# Altium footprint library main.PcbLib: 9 footprints
Each footprint in its own frame and in the unit in brackets; x right, y up, seen from the top. Pads: shape width x height; smd on the part's side, far side on the other; paste and mask are expansions set on the pad; w line width, h text height; cw(c..) or ccw(c..) is an arc to the next point about the centre after c.
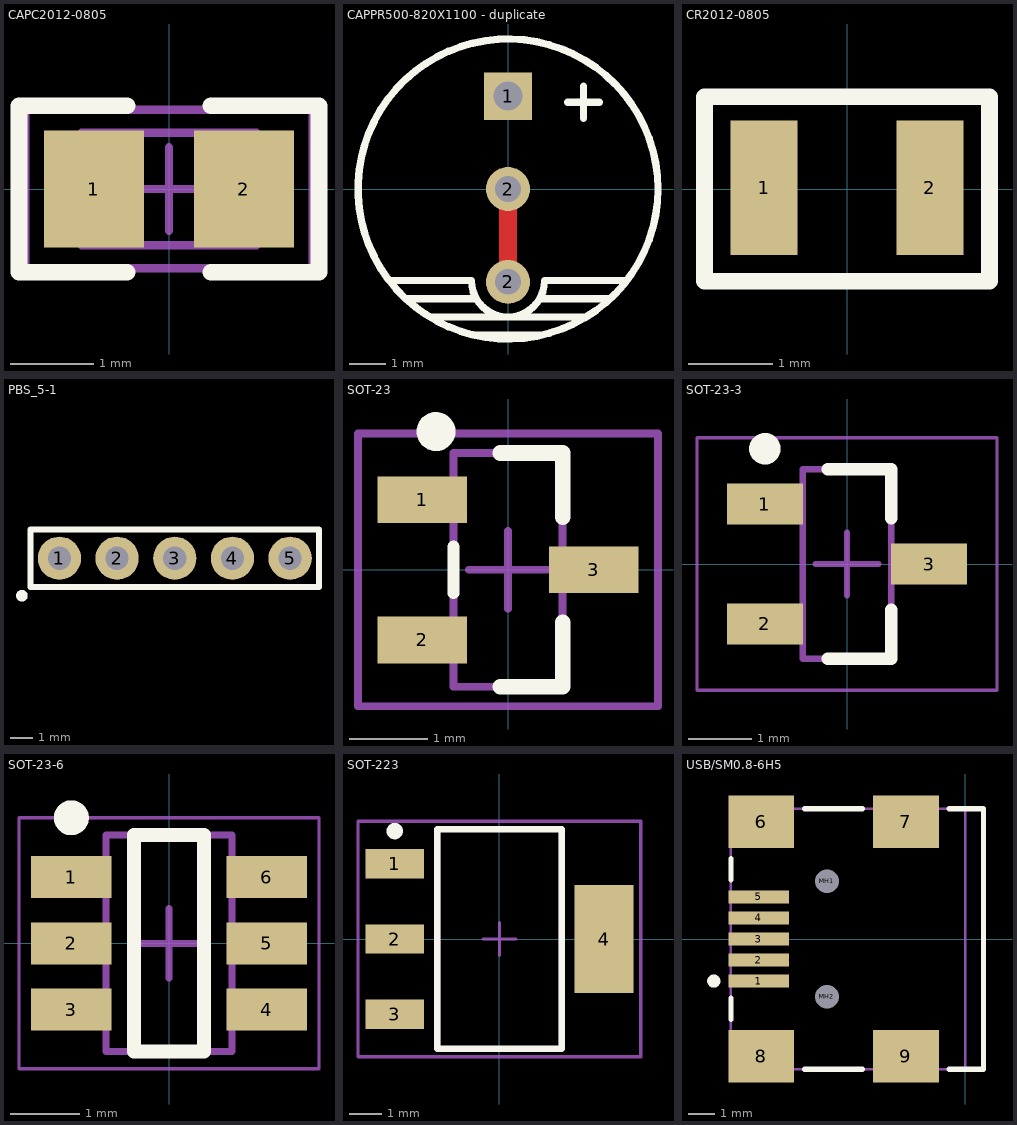
[diagram p0: the footprints below, top view; thin cyan lines are the x and y axes]

## CAPC2012-0805 [mm] "Chip Capacitor, 2-Leads, Body 2.0x1.3mm, IPC Medium Density"
height 0.6
pads (2):
  rect 1.2x1.4 smd: 1(-0.9,0) 2(0.9,0)
Top Overlay:
  lines w0.2: -0.5,-1 -1.8,-1 -1.8,1 -0.5,1 ; 0.5,-1 1.8,-1 1.8,1 0.5,1
Mechanical 13:
  lines w0.1: -1.05,-0.675 -1.05,0.675 1.05,0.675 1.05,-0.675 -1.05,-0.675
Mechanical 15:
  lines w0.1: -0.5,0 0.5,0 ; 0,-0.5 0,0.5 ; -1.725,-0.95 -1.725,0.95 1.725,0.95 1.725,-0.95 -1.725,-0.95
3D body "User Library-SMD CAPACITOR 0805.step": height 0.6, standoff 0, extent -1,-0.625 1,0.625

## CAPPR500-820X1100 - duplicate [mm] "Шаг 5 мм. Диаметр - 8.2. Высота - 11."
pads (3):
  rect 1.3x1.3 hole 0.8: 1(0,2.54)
  round 1.2 hole 0.7: 2(0,-2.54) 2(0,0)
Top Layer:
  rectangle: -0.25,-2.54 0.25,0
Top Overlay:
  circle w0.2: c0,0 r4.1
  lines w0.2: -3.225,-2.5 -1,-2.5 ccw(c0,-2.5) 1,-2.5 3.225,-2.5 ; -2.775,-3 -0.875,-3 ; -2.125,-3.5 2.125,-3.5 ; -0.9,-4 0.875,-4 ; 0.875,-3 2.775,-3 ; 1.625,2.375 2.5,2.375 ; 2.062,1.938 2.062,2.813
3D body "Capacitor Radial ElectroliticCAPPR500-820X1100.STEP": height 11.01, standoff -2.7, extent -4.1,-4.11 4.1,4.1

## CR2012-0805 [mm]
pads (2):
  rect 0.8x1.6 smd: 1(-0.99,0.015) 2(0.99,0.015)
Top Overlay:
  lines w0.2: -1.7,-1.1 1.7,-1.1 1.7,1.1 -1.7,1.1 -1.7,-1.1
3D body "0805.STEP": height 0.49, standoff -0.02, extent -0.99,-0.6 0.99,0.63

## PBS_5-1 [mil]
height 3346
pads (5):
  round 75 hole 40: 1(500,500) 2(600,500) 3(700,500) 4(800,500) 5(900,500)
Top Overlay:
  circle w10: c435,435 r5
  lines w10: 450,450 950,450 950,550 450,550 450,450

## SOT-23 [mm] "SOT23, 3-Leads, Body 3,0x2,6mm (max), Pitch 0,95mm, IPC Medium Density"
height 1.1
pads (3):
  rect 1.15x0.6 smd: 1(-1.1,0.9) 2(-1.1,-0.9) 3(1.1,0)
Top Overlay:
  circle w0.25: c-0.925,1.775 r0.125
  lines w0.15: -0.7,-0.3 -0.7,0.3
  lines w0.2: -0.1,-1.5 0.7,-1.5 0.7,-0.675 ; -0.1,1.5 0.7,1.5 0.7,0.675
Mechanical 13:
  lines w0.1: -0.7,-1.5 0.7,-1.5 0.7,1.5 -0.7,1.5 -0.7,-1.5
Mechanical 15:
  lines w0.1: -0.5,0 0.5,0 ; 0,-0.5 0,0.5 ; -1.925,-1.75 1.925,-1.75 1.925,1.75 -1.925,1.75 -1.925,-1.75
3D body "User Library-sot23-1.STEP": height 1, standoff 0, extent -1.17,-1.46 1.17,1.46

## SOT-23-3 [mm] "SOT23, 3-Leads, Body 2,90x2,45mm, Pitch 0,95mm, IPC Low Density"
height 1.1
pads (3):
  rect 1.2x0.65 smd: 1(-1.3,0.95) 2(-1.3,-0.95) 3(1.3,0)
Top Overlay:
  circle w0.25: c-1.3,1.825 r0.125
  lines w0.2: -0.3,-1.5 0.7,-1.5 0.7,-0.725 ; -0.3,1.5 0.7,1.5 0.7,0.725
Mechanical 13:
  lines w0.1: -0.7,-1.5 -0.7,1.5 0.7,1.5 0.7,-1.5 -0.7,-1.5
Mechanical 15:
  lines w0.05: -2.375,-2 -2.375,2 2.375,2 2.375,-2 -2.375,-2
  lines w0.1: -0.5,0 0.5,0 ; 0,-0.5 0,0.5
3D body: height 1.1, standoff 0.05, extent -0.7,-1.5 0.7,1.5

## SOT-23-6 [mm] "SOT23, 6-Leads, Body 2,90x2,80mm, Pitch 0,95mm, IPC Medium Density"
height 1.1
pads (6):
  rect 1.15x0.6 smd: 1(-1.4,0.95) 2(-1.4,0) 3(-1.4,-0.95) 4(1.4,-0.95) 5(1.4,0) 6(1.4,0.95)
Top Overlay:
  circle w0.25: c-1.4,1.8 r0.125
  lines w0.2: -0.5,-1.55 0.5,-1.55 0.5,1.55 -0.5,1.55 -0.5,-1.55
Mechanical 13:
  lines w0.1: -0.9,-1.55 -0.9,1.55 0.9,1.55 0.9,-1.55 -0.9,-1.55
Mechanical 15:
  lines w0.05: -2.15,-1.8 -2.15,1.8 2.15,1.8 2.15,-1.8 -2.15,-1.8
  lines w0.1: -0.5,0 0.5,0 ; 0,-0.5 0,0.5
3D body "User Library-sot236.step": height 1, standoff 0, extent -1.17,-1.46 1.17,1.46

## SOT-223 [mm] "SOT223, 4-Leads, Body 6,7x7,3mm (max), Pitch 2,30mm, IPC Medium Density"
height 1.7
pads (4):
  rect 1.8x0.9 smd: 1(-3.2,2.3) 2(-3.2,0) 3(-3.2,-2.3)
  rect 1.8x3.3 smd: 4(3.2,0)
Top Overlay:
  circle w0.25: c-3.2,3.3 r0.125
  lines w0.2: -1.9,-3.35 1.9,-3.35 1.9,3.35 -1.9,3.35 -1.9,-3.35
Mechanical 13:
  lines w0.1: -1.85,-3.35 1.85,-3.35 1.85,3.35 -1.85,3.35 -1.85,-3.35
Mechanical 15:
  lines w0.1: -0.5,0 0.5,0 ; 0,-0.5 0,0.5 ; -4.325,-3.6 4.325,-3.6 4.325,3.6 -4.325,3.6 -4.325,-3.6
3D body "SOT-223.STEP": height 1.6, standoff -0.08, extent -3.569,-3.25 3.819,3.25

## USB/SM0.8-6H5 [mm] "Connector; USB2.0, Type B, SM; 5 Position; Right Angle"
height 3.9
pads (11):
  rect 2.3x0.5 smd: 1(-7.85,-1.6) 2(-7.85,-0.8) 3(-7.85,0) 4(-7.85,0.8) 5(-7.85,1.6)
  rect 2.5x2 smd: 6(-7.75,4.45) 7(-2.25,4.45) 8(-7.75,-4.45) 9(-2.25,-4.45)
  round 0.6 hole 0.9 unplated: MH1(-5.25,2.2) MH2(-5.25,-2.2)
Top Overlay:
  circle w0.25: c-9.55,-1.6 r0.125
  lines w0.2: -8.9,-3.05 -8.9,-2.25 ; -8.9,2.25 -8.9,3.05 ; -6.1,-4.95 -3.9,-4.95 ; -6.1,4.95 -3.9,4.95 ; -0.6,-4.95 0.7,-4.95 0.7,4.95 -0.6,4.95
Mechanical 1:
  lines w0.1: 0,-4.95 0,4.95
  text "PCB Edge" at 0.432,-4.036 h0.25
Mechanical 13:
  lines w0.1: -8.9,-4.95 -8.9,4.95 0.7,4.95 0.7,-4.95 -8.9,-4.95
3D body: height 3.9, standoff 0, extent -8.9,-4.95 0.7,4.95